# Altium integrated library LM386MX-1_NOPB.IntLib: 1 symbol
Pins are listed as number, name and electrical type; pins without a type are passive.

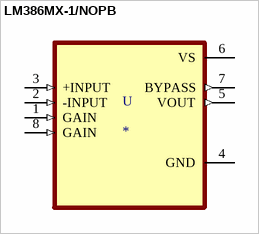
[diagram p0: symbol LM386MX-1/NOPB]

## LM386MX-1/NOPB
designator U
Wide Input Voltage Low Power Audio Amplifier with Internal Gain; MP: LM386MX-1/NOPB; MF: Texas Instruments; Availability: Unavailable; Package: SOIC-8 Texas Instruments; Value: *; SnapEDA_Link: https://www.snapeda.com/parts/LM386MX-1/NOPB/Texas%20Instruments/view-part/216475/?ref=snap; Price: None; Texas_Instruments-Purchase-URL: https://snapeda.com/shop?store=Texas+Instruments&id=216475
footprint SOIC127P599X175-8N
pins: 1 GAIN (in), 2 -INPUT (in), 3 +INPUT (in), 4 GND (power), 5 VOUT (out), 6 VS (power), 7 BYPASS (out), 8 GAIN (in)